# Altium footprint library TO254P1036X470X1965-3.PcbLib: 1 footprints
Each footprint in its own frame and in the unit in brackets; x right, y up, seen from the top. Pads: shape width x height; smd on the part's side, far side on the other; paste and mask are expansions set on the pad; w line width, h text height; cw(c..) or ccw(c..) is an arc to the next point about the centre after c.
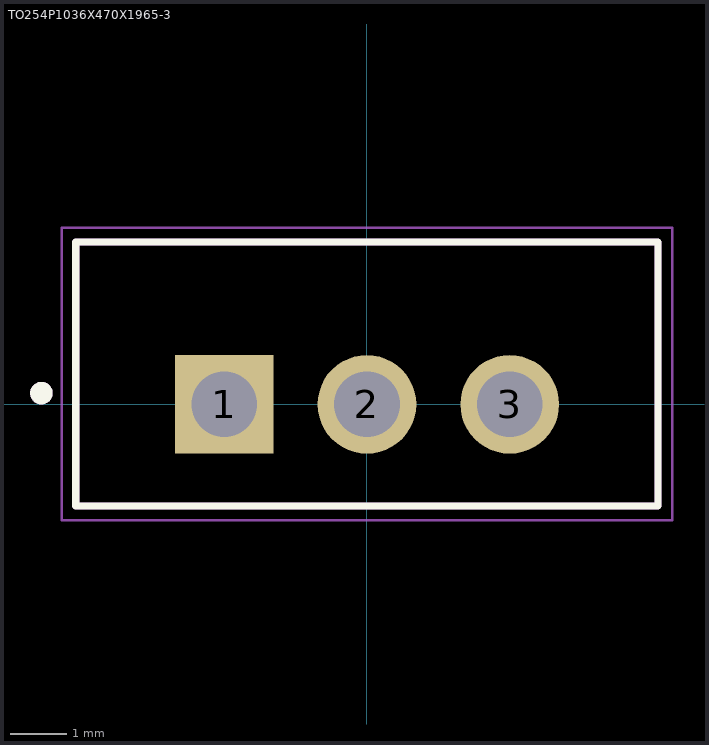
[diagram p0: the footprint, top view; thin cyan lines are the x and y axes]

## TO254P1036X470X1965-3 [mm]
height 19.65
pads (3):
  rect 1.755x1.755 / inner round 1.755 / far side rect 1.755x1.755 hole 1.17: 1(-2.54,0)
  round 1.755 hole 1.17: 2(0,0) 3(2.54,0)
Top Overlay:
  circle w0.2: c-5.79,0.2 r0.1
  lines w0.127: -5.18,-1.81 -5.18,2.89 5.18,2.89 5.18,-1.81 -5.18,-1.81
Mechanical 13:
  circle w0.2: c-5.79,0.2 r0.1
  lines w0.127: -5.18,-1.81 -5.18,2.89 5.18,2.89 5.18,-1.81 -5.18,-1.81
Mechanical 15:
  lines w0.05: -5.43,-2.06 -5.43,3.14 5.43,3.14 5.43,-2.06 -5.43,-2.06
3D body "step_temp.STEP": height 19.65, standoff -9.22, extent -5.08,0 5.08,4.55